# EAGLE library part LTC4412 (library PowerPath)
LTC4412 (Low Loss PowerPath Controller in ThinSOT) The LTC4412 controls an external P-channel MOSFET to create a near ideal diode function for power switchover or load sharing. This permits highly efficient OR’ing of multiple power sources for extended battery life and low selfheating. When conducting, the voltage drop across the MOSFET is typically 20mV. For applications with a wall adapter or other auxiliary power source, the load is automatically disconnected from the battery when the auxiliary source is connected. Two or more LTC4412s may be interconnected to allow load sharing between multiple batteries or charging of multiple batteries from a single charger. The wide supply operating range supports operation from one to six Li-Ion cells in series. The low quiescent current (11μA typical) is independent of the load current. The gate driver includes an internal voltage clamp for MOSFET protection. The STAT pin can be used to enable an auxiliary P-channel MOSFET power switch when an auxiliary supply is detected. This pin may also be used to indicate to a microcontroller that an auxiliary supply is connected. The control (CTL) input enables the user to force the primary MOSFET off and the STAT pin low. The LTC4412 is available in a low profile (1mm) ThinSOT package.
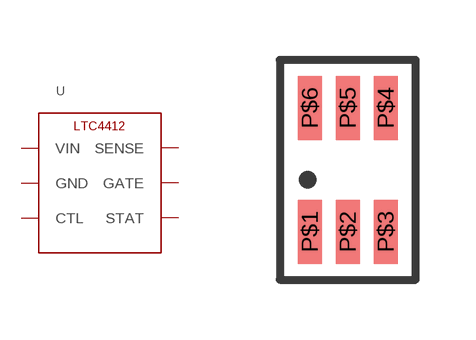
[diagram p0: symbol with the pads of TSOT-23(3X3); footprint TSOT-23(3X3)]

Designator prefix U

## LTC4412ES6  [TSOT-23(3X3)]
P$1  VIN
P$2  GND
P$3  CTL
P$4  STAT
P$5  GATE
P$6  SENSE

## Footprint TSOT-23(3X3) (pad centres in mm)
smd 0.6 x 1.6: P$1 -0.95,-1.6; P$2 0,-1.6; P$3 0.95,-1.6; P$4 0.95,1.5; P$5 0,1.5; P$6 -0.95,1.5